# Altium footprint library 1_to_5_Pin.PcbLib: 194 footprints (part 12 of 13)
Each footprint in its own frame and in the unit in brackets; x right, y up, seen from the top. Pads: shape width x height; smd on the part's side, far side on the other; paste and mask are expansions set on the pad; w line width, h text height; cw(c..) or ccw(c..) is an arc to the next point about the centre after c.
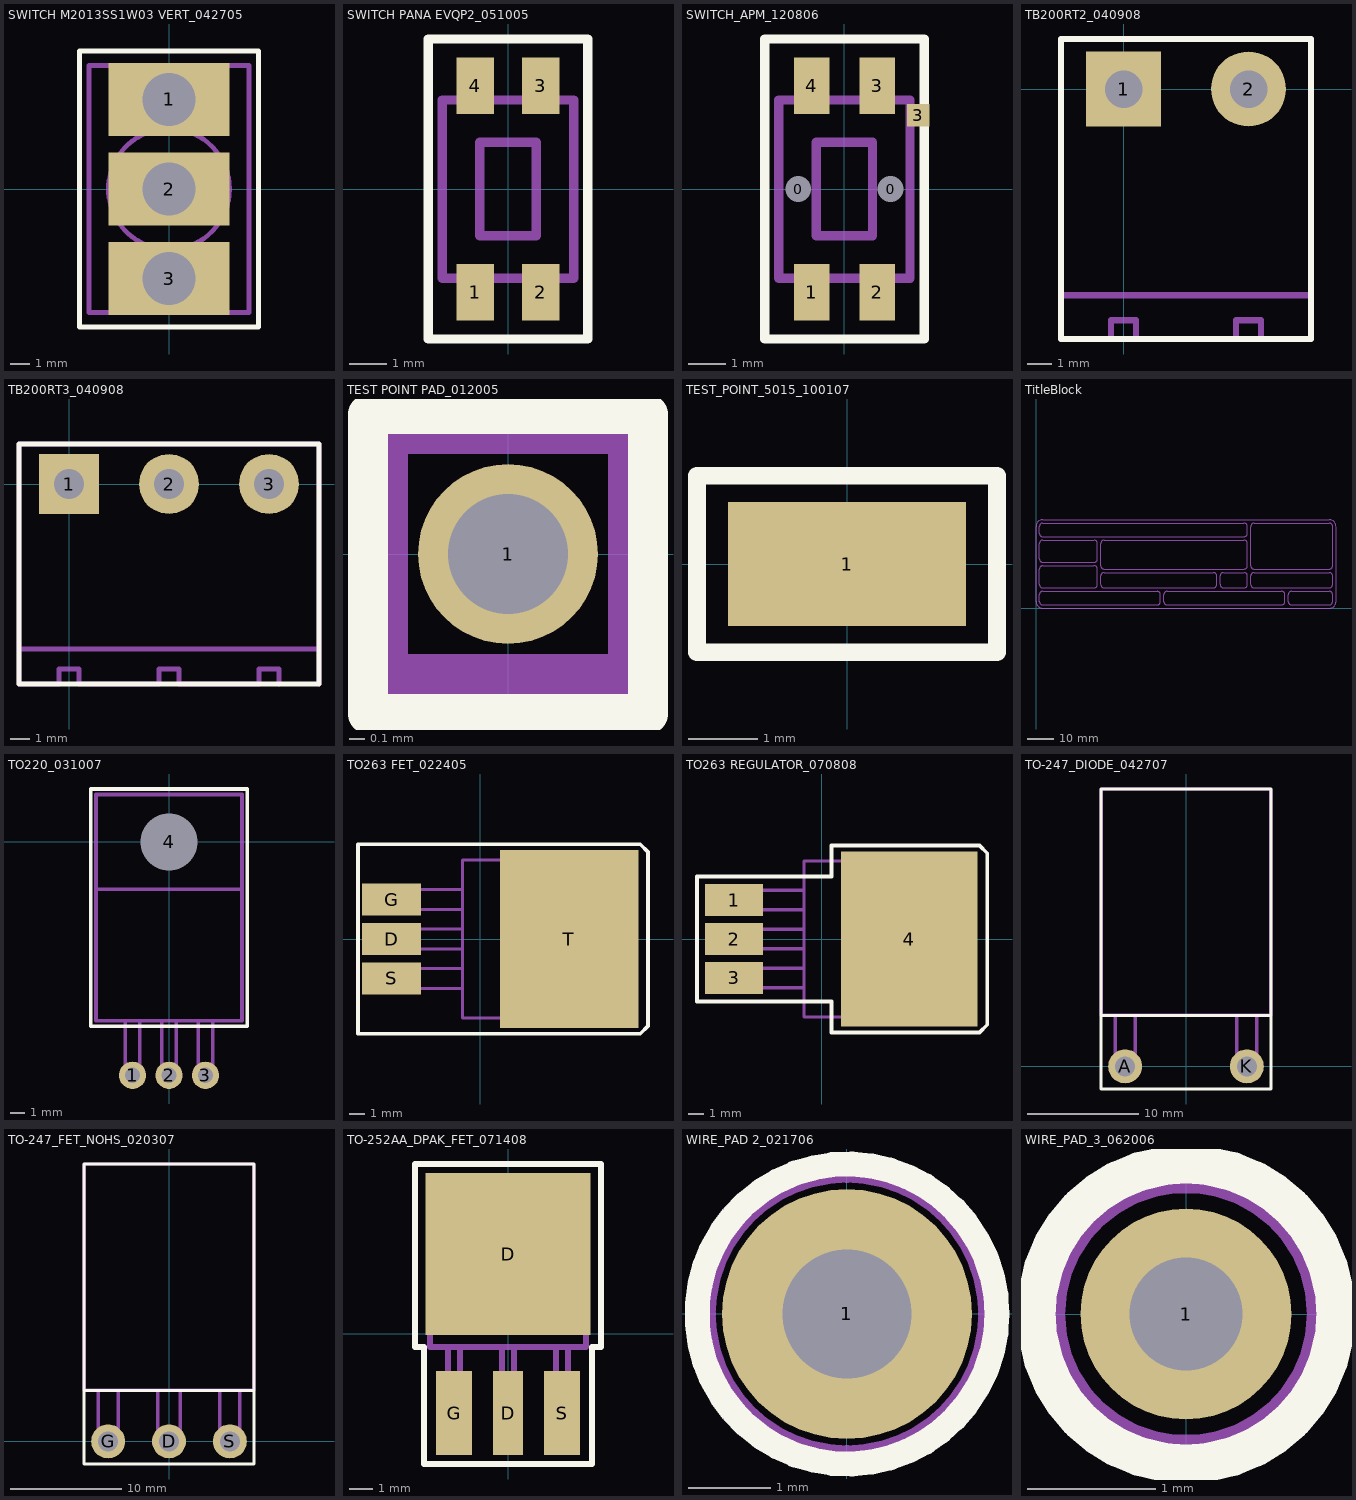
[diagram p11: the footprints below, top view; thin cyan lines are the x and y axes]

## SWITCH M2013SS1W03 VERT_042705 [mil] "TH"
height 1170
pads (3):
  rect 250x150 hole 110: 1(0,185) 2(0,0) 3(0,-185)
Top Overlay:
  lines w10: -185,-285 0,-285 185,-285 185,285 0,285 -185,285 -185,-285
Assembly Outline:
  circle w10: c0,0 r125
  circle w10: c0,0 r50
  lines w10: -165,-255 165,-255 165,255 -165,255 -165,0 -165,-255
Assembly Designator:
  text ".Designator" at -75,-20 h40
Assembly Comment:
  text ".Comment" at -150,-335 h40

## SWITCH PANA EVQP2_051005 [mil] "SMT"
height 110
pads (4):
  rect 40x60 smd: 1(-35,-110) 2(35,-110) 3(35,110) 4(-35,110)
Top Overlay:
  lines w10: -85,-160 -85,0 -85,160 85,160 85,0 85,-160 -85,-160
Assembly Outline:
  lines w10: -70,-95 -70,95 70,95 70,0 70,-95 -70,-95 ; -30,-50 -30,50 30,50 30,0 30,-50 -30,-50
Assembly Designator:
  text ".Designator" at -40,-20 h40
Assembly Comment:
  text ".Comment" at -85,-215 h40

## SWITCH_APM_120806 [mil] "SMT"
height 110
pads (7):
  round 19.68 hole 27.56: 0(-49.21,0) 0(49.21,0)
  rect 38x60 smd: 1(-35,-110) 2(35,-110) 3(35,110) 4(-35,110)
  rect 23.62x23.62 smd: 3(78.74,78.74)
Top Overlay:
  lines w10: -85,-160 -85,0 -85,160 85,160 85,0 85,-160 -85,-160
Assembly Outline:
  lines w10: -70,-95 -70,95 70,95 70,0 70,-95 -70,-95 ; -30,-50 -30,50 30,50 30,0 30,-50 -30,-50
Assembly Designator:
  text ".Designator" at -40,-20 h40
Assembly Comment:
  text ".Comment" at -85,-215 h40

## TB200RT2_040908 [mil] "TH"
height 0.35
pads (2):
  rect 120x120 hole 60: 1(0,0)
  round 120 hole 60: 2(200,0)
Top Overlay:
  lines w10: -100,-400 300,-400 300,80 -100,80 -100,-400
Assembly Outline:
  lines w10: -100,-330 300,-330 ; 220,-400 220,-370 180,-370 180,-400 20,-400 20,-370 -20,-370 -20,-400 -100,-400 -100,80 300,80 300,-400
Assembly Designator:
  text ".Designator" at 50,-220 h40
Assembly Comment:
  text ".Comment" at -110,-460 h40

## TB200RT3_040908 [mil] "TH"
height 0.35
pads (3):
  rect 120x120 hole 60: 1(0,0)
  round 120 hole 60: 2(200,0) 3(400,0)
Top Overlay:
  lines w10: -100,-400 -100,80 500,80 500,-400 -100,-400
Assembly Outline:
  lines w10: -100,-330 500,-330 ; 420,-400 420,-370 380,-370 380,-400 220,-400 220,-370 180,-370 180,-400 20,-400 20,-370 -20,-370 -20,-400 -100,-400 -100,80 500,80 500,-400
Assembly Designator:
  text ".Designator" at 120,-190 h40
Assembly Comment:
  text ".Comment" at -9,-295 h40

## TEST POINT PAD_012005 [mil] "FEATURE SMT PCB"
pads (1):
  round 45 hole 30: 1(0,0)
Top Overlay:
  lines w10: -35,-40 -35,35 0,35 35,35 35,-40 -35,-40
Assembly Outline:
  lines w10: -30,-30 -30,30 0,30 30,30 30,-30 -30,-30
Assembly Designator:
  text ".Designator" at -45,40 h40
Assembly Comment:
  text ".Comment" at -80,-80 h40

## TEST_POINT_5015_100107 [mil] "SMT"
height 0.06
pads (1):
  rect 135x70 smd: 1(0,0)
Top Overlay:
  lines w10: -85,-50 -85,50 85,50 85,-50 -85,-50
Assembly Outline:
  lines w10: -55,-25 -55,25 55,25 55,-25 -55,-25
Assembly Designator:
  text ".Designator" at -50,50 h40
Assembly Comment:
  text ".Comment" at -95,-95 h40

## TitleBlock [mil] "FEATURE PCB DOCUMENTATION"
Title:
  lines w10: -1.6,99.86 -1.6,1199.86 cw(c98.4,1199.86) 98.4,1299.86 4298.4,1299.86 cw(c4298.4,1199.86) 4398.4,1199.86 4398.4,99.86 cw(c4298.4,99.86) 4298.4,-0.14 98.4,-0.14 ; -1.6,100.86 ccw(c99.4,100.86) 97.63,-0.13 ; 97.52,49.87 cw(c98.4,99.86) 48.4,99.86 48.4,199.86 cw(c98.4,199.86) 98.4,249.86 1773.4,249.86 cw(c1773.4,199.86) 1823.4,199.86 1823.4,99.86 ; 97.52,299.87 cw(c98.4,349.86) 48.4,349.86 48.4,574.86 cw(c98.4,574.86) 98.4,624.86 848.4,624.86 ; 98.4,49.86 1773.4,49.86 ; 98.4,299.86 848.4,299.86 ; 847.69,624.83 cw(c849.4,575.86) 898.4,575.86 ; 848.4,674.86 98.4,674.86 cw(c98.4,724.86) 48.4,724.86 48.4,949.86 cw(c98.4,949.86) 98.4,999.86 848.4,999.86 ; 849.4,299.86 ccw(c849.4,348.86) 898.4,348.86 ; 849.4,999.86 cw(c849.4,950.86) 898.4,950.86 ; 850.4,674.86 ccw(c850.4,722.86) 898.4,722.86 ; 898.4,349.86 898.4,574.86 ; 898.4,724.86 898.4,949.86 ; 948.4,348.86 ccw(c997.4,348.86) 997.4,299.86 ; 948.4,349.86 948.4,474.86 cw(c998.4,474.86) 998.4,524.86 2598.4,524.86 ; 948.4,623.86 ccw(c997.4,623.86) 997.4,574.86 ; 948.4,624.86 948.4,949.86 cw(c998.4,949.86) 998.4,999.86 3048.4,999.86 cw(c3048.4,949.86) 3098.4,949.86 3098.4,624.86 cw(c3048.4,624.86) 3049.27,574.86 ; 998.4,299.86 2598.4,299.86 ; 998.4,574.86 3048.4,574.86 ; 1774.56,49.86 ccw(c1775.4,97.86) 1823.38,99.53 ; 1922.52,49.87 cw(c1923.4,99.86) 1873.4,99.86 1873.4,199.86 cw(c1923.4,199.86) 1923.4,249.86 3598.4,249.86 cw(c3598.4,199.86) 3648.4,199.86 3648.4,99.86 ; 1923.4,49.86 3598.4,49.86 ; 2599.4,299.86 ccw(c2599.4,348.86) 2648.39,349.71 ; 2599.4,524.86 cw(c2599.4,475.86) 2648.4,475.86 ; 2648.4,349.86 2648.4,474.86 ; 2698.4,349.86 2698.4,474.86 ; 2698.4,350.86 ccw(c2749.4,350.86) 2748.51,299.87 ; 2698.46,474.35 cw(c2746.4,476.86) 2746.4,524.86 ; 2748.4,299.86 3048.4,299.86 ccw(c3048.4,349.86) 3098.4,349.86 3098.4,474.86 ; 2748.4,524.86 3048.4,524.86 ; 3049.4,524.86 cw(c3049.4,475.86) 3098.4,475.86 ; 3148.4,348.86 ccw(c3197.4,348.86) 3198.25,299.87 ; 3148.4,349.86 3148.4,474.86 cw(c3198.4,474.86) 3198.4,524.86 4298.4,524.86 ; 3198.4,299.86 4298.4,299.86 ccw(c4298.4,349.86) 4348.4,349.86 4348.4,475.86 ccw(c4299.4,475.86) 4299.4,524.86 ; 3599.56,49.86 ccw(c3600.4,97.86) 3648.38,99.53 ; 3698.4,98.86 ccw(c3747.4,98.86) 3748.25,49.87 ; 3698.4,99.86 3698.4,199.86 cw(c3748.4,199.86) 3748.4,249.86 4298.4,249.86 cw(c4298.4,199.86) 4348.4,200.73 ; 3748.4,49.86 4298.4,49.86 ccw(c4298.4,99.86) 4348.4,99.86 4348.4,199.86 ; 4297.69,1249.83 cw(c4299.4,1200.86) 4348.4,1200.86 ; 4298.4,1249.86 3198.4,1249.86 ccw(c3198.4,1199.86) 3148.4,1199.86 3148.4,624.86 ccw(c3198.4,624.86) 3198.4,574.86 4298.4,574.86 ccw(c4298.4,624.86) 4348.4,624.86 4348.4,1199.86 ; 48.4,1099.86 ccw(c98.4,1099.86) 98.4,1049.86 3048.4,1049.86 ccw(c3048.4,1099.86) 3098.4,1099.86 3098.4,1199.86 ccw(c3048.4,1199.86) 3048.4,1249.86 98.4,1249.86 ccw(c98.4,1199.86) 48.4,1199.86 48.4,1099.86
  text "DATE:" at 3198.4,437.36 h50
  text "REV:" at 2735.9,437.36 h50
  text "PHONE:" at 98.4,712.36 h50
  text "PHONE:" at 98.4,337.36 h50
  text "LAYER:" at 1938.4,159.86 h50
  text "ENGINEER:" at 98.4,899.86 h50
  text "Approval" at 998.4,437.36 h50
  text "TITLE:" at 985.9,912.36 h50
  text "DRAWN by :" at 98.4,519.86 h50
  text "FILE NAME:" at 98.4,159.86 h50
  text "GERBER:" at 3758.4,159.86 h50
  text "1.0" at 2910.9,362.36 h50
  text "1/1/2007" at 3624.75,390.54 h50
  text "JCM II" at 512,517 h50

## TO220_031007 [mil] "TO220 Generic"
height 185
pads (4):
  round 75 hole 42: 1(-100,-640) 2(0,-640) 3(100,-640)
  round 100 hole 156: 4(0,0)
Top Overlay:
  lines w10: -215,-505 -215,145 0,145 215,145 215,-505 -215,-505
Assembly Outline:
  lines w10: -120,-490 -120,-642 -80,-642 -80,-490 ; -20,-490 -20,-642 20,-642 20,-490 ; 80,-490 80,-642 120,-642 120,-490 ; -200,-130 200,-130 ; -200,-130 -200,130 200,130 200,-130 ; -200,-130 -200,-490 200,-490 200,-130
Assembly Designator:
  text ".Designator" at -30,170 h40
Assembly Comment:
  text ".Comment" at 230,130 h40

## TO263 FET_022405 [mil] "SMT"
height 200
pads (4):
  rect 150x82 smd: D(-225,0) G(-225,100) S(-225,-100)
  rect 350x450 smd: T(225,0)
Top Overlay:
  lines w10: -310,-240 25,-240 405,-240 425,-220 425,220 405,240 25,240 -310,240 -310,-215 -310,-240
Assembly Outline:
  lines w8: -45,-125 -220,-125 -220,-75 -45,-75 ; -45,75 -220,75 -220,125 -45,125 ; -45,100 -45,0 ; -45,0 -45,25 -220,25 -220,-25 -45,-25 -45,0 ; 280,-200 325,-200 325,200 280,200 ; 280,-200 -45,-200 -45,200 280,200 ; 280,-200 280,200
Assembly Designator:
  text ".Designator" at 65,-25 h40
Assembly Comment:
  text ".Comment" at -10,-165 h40

## TO263 REGULATOR_070808 [mil] "SMT"
height 200
pads (4):
  rect 150x82 smd: 1(-225,100) 2(-225,0) 3(-225,-100)
  rect 350x450 smd paste-80: 4(225,0)
Top Overlay:
  lines w10: -320,-160 25,-160 25,-240 405,-240 425,-220 425,220 405,240 25,240 25,160 -320,160 -320,-160
Assembly Outline:
  lines w8: -45,-125 -220,-125 -220,-75 -45,-75 ; -45,75 -220,75 -220,125 -45,125 ; -45,100 -45,0 ; -45,0 -45,-25 -220,-25 -220,25 -45,25 -45,0 ; 280,-200 280,200 ; 280,-200 -45,-200 -45,200 280,200 ; 280,-200 325,-200 325,200 280,200
Assembly Designator:
  text ".Designator" at 65,-25 h40
Assembly Comment:
  text ".Comment" at -10,-165 h40

## TO-247_DIODE_042707 [mil] "TH"
height 150
pads (2):
  round 120 hole 70: A(-215,0) K(215,0)
Top Overlay:
  lines w10: -300,180 300,180 ; -300,-80 -300,980 300,980 300,-80 -300,-80
Assembly Outline:
  lines w12: -250,180 -250,0 -180,0 -180,180 ; 180,180 180,0 250,0 250,180 ; -300,180 300,180 300,980 -300,980 -300,180
Assembly Designator:
  text ".Designator" at -67.5,997.5 h40
Assembly Comment:
  text ".Comment" at -262.5,867.5 h40

## TO-247_FET_NOHS_020307 [mil] "TH"
height 150
pads (3):
  round 120 hole 70: D(0,0) G(-215,0) S(215,0)
Top Overlay:
  lines w10: -300,180 300,180 ; -300,-80 -300,980 300,980 300,-80 -300,-80
Assembly Outline:
  lines w12: -250,180 -250,0 -180,0 -180,180 ; -40,180 -40,0 40,0 40,180 ; 180,180 180,0 250,0 250,180 ; -300,180 300,180 300,980 -300,980 -300,180
Assembly Designator:
  text ".Designator" at -67.5,997.5 h40
Assembly Comment:
  text ".Comment" at -262.5,867.5 h40

## TO-252AA_DPAK_FET_071408 [mil] "SMT"
height 100
pads (4):
  rect 50x140 smd paste-15: D(0,-132.5)
  rect 275x270 smd paste-70: D(0,132.5)
  rect 60x140 smd paste-15: G(-90,-132.5) S(90,-132.5)
Top Overlay:
  lines w10: -155,-22.5 -140,-22.5 -140,-217.5 140,-217.5 140,-22.5 155,-22.5 155,282.5 -155,282.5 -155,-22.5
Assembly Outline:
  lines w10: -100,-22.5 -100,-132.5 -80,-132.5 -80,-22.5 ; -100,217.5 -100,237.5 -80,257.5 80,257.5 100,237.5 100,217.5 ; -10,-22.5 -10,-82.5 10,-82.5 10,-22.5 ; 80,-22.5 80,-132.5 100,-132.5 100,-22.5 ; -130,-22.5 -130,197.5 -110,217.5 110,217.5 130,197.5 130,-22.5 -130,-22.5
Assembly Designator:
  text ".Designator" at -50,132.5 h40
Assembly Comment:
  text ".Comment" at -110,12.5 h40

## WIRE_PAD 2_021706 [mil] "FEATURE TH PCB"
pads (1):
  round 120 hole 62: 1(0,0)
Top Overlay:
  circle w12: c0,0 r72
Assembly Outline:
  circle w10: c0,0 r68
Assembly Designator:
  text ".Designator" at -70,90 h40
Assembly Comment:
  text ".Comment" at -120,-130 h40

## WIRE_PAD_3_062006 [mil] "FEATURE TH PCB"
pads (1):
  round 65 hole 35: 1(0,0)
Top Overlay:
  circle w12: c0,0 r46.26
Assembly Outline:
  circle w10: c0,0 r42.33